# Altium schematic symbol library ALL.SchLib: 28 symbols
Pins are listed as number, name and electrical type; pins without a type are passive.

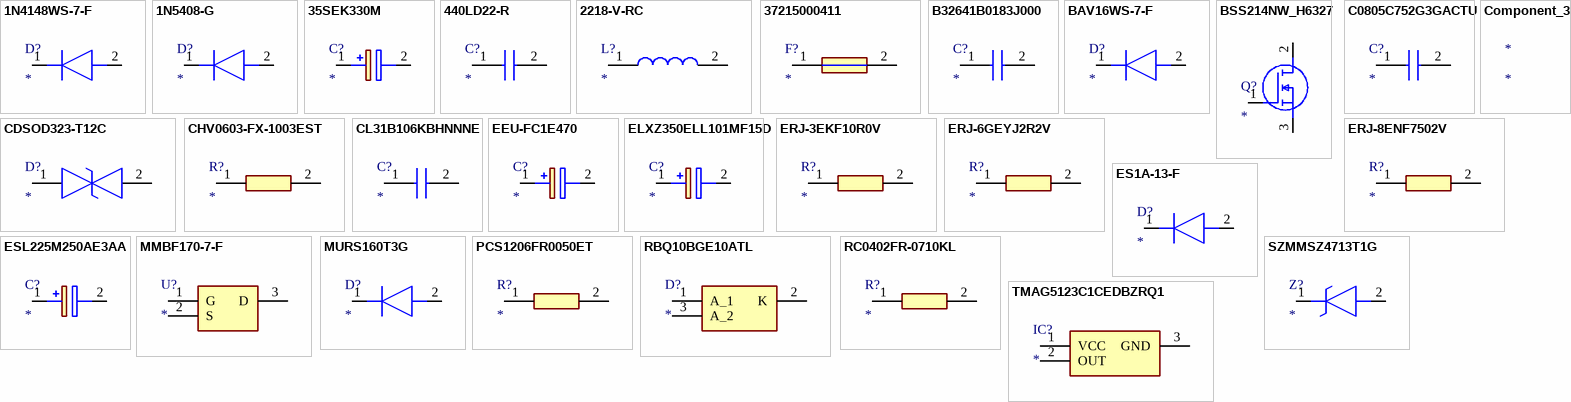
[diagram p0: symbols 1N4148WS-7-F to TMAG5123C1CEDBZRQ1]

## 1N4148WS-7-F
designator D?
Diode; Manufacturer_Name: Diodes Inc.; Manufacturer_Part_Number: 1N4148WS-7-F; Datasheet Link: https://componentsearchengine.com/Datasheets/2/1N4148WS-7-F.pdf; Height: 1.2mm; Mouser Part Number: 621-1N4148WS-F; Mouser Price/Stock: https://www.mouser.co.uk/ProductDetail/Diodes-Incorporated/1N4148WS-7-F?qs=4drIV0IxA0r8aNy7%2Fu4kVw%3D%3D; Arrow Part Number: 1N4148WS-7-F; Arrow Price/Stock: https://www.arrow.com/en/products/1n4148ws-7-f/diodes-incorporated?region=nac
footprint SOD2513X120N
pins: 1 K, 2 A

## 1N5408-G
designator D?
Diode; Manufacturer_Name: Comchip Technology; Manufacturer_Part_Number: 1N5408-G; Datasheet Link: https://mouser.componentsearchengine.com/Datasheets/1/1N5408-G.pdf; Mouser Part Number: 750-1N5408-G; Mouser Price/Stock: https://www.mouser.co.uk/ProductDetail/Comchip-Technology/1N5408-G?qs=2qJf6qQ4IOL0Y0pSbu8ytQ%3D%3D; Arrow Part Number: 1N5408-G; Arrow Price/Stock: https://www.arrow.com/en/products/1n5408-g/comchip-technology?region=nac
footprint DIOAD3022W132L902D530
pins: 1 K, 2 A

## 35SEK330M
designator C?
Capacitor Polarised; Manufacturer_Name: Panasonic; Manufacturer_Part_Number: 35SEK330M; Datasheet Link: http://industrial.panasonic.com/cdbs/www-data/pdf/AAB8000/AAB8000C265.pdf; Height: 13mm; Mouser Part Number: 667-35SEK330M; Mouser Price/Stock: https://www.mouser.co.uk/ProductDetail/Panasonic/35SEK330M?qs=W0yvOO0ixfEBNpdyS0JeDw%3D%3D; Arrow Part Number: 35SEK330M; Arrow Price/Stock: https://www.arrow.com/en/products/35sek330m/panasonic
footprint CAPPRD500W65D1000H1300
pins: 1 +, 2 -

## 440LD22-R
designator C?
Capacitor; Manufacturer_Name: Vishay; Manufacturer_Part_Number: 440LD22-R; Datasheet Link: https://www.vishay.com/docs/23102/440lseries.pdf; Height: 8.9mm; Mouser Part Number: 75-440LD22-R; Mouser Price/Stock: https://www.mouser.co.uk/ProductDetail/Vishay/440LD22-R?qs=q6Cxi74AsI%252B9jU0TIa2bZg%3D%3D; Arrow Part Number: 440LD22-R; Arrow Price/Stock: https://www.arrow.com/en/products/440ld22-r/vishay?region=nac
footprint 440LD22R
pins: 1, 2

## 2218-V-RC
designator L?
Inductor; Manufacturer_Name: Bourns; Manufacturer_Part_Number: 2218-V-RC; Datasheet Link: http://uk.rs-online.com/web/p/products/8603988; Height: 24.13mm; Mouser Part Number: 542-2218-V-RC; Mouser Price/Stock: https://www.mouser.com/Search/Refine.aspx?Keyword=542-2218-V-RC; Arrow Part Number: 2218-V-RC; Arrow Price/Stock: https://www.arrow.com/en/products/2218-v-rc/bourns
footprint 2218VRC
pins: 1, 2

## 37215000411
designator F?
Fuse; Manufacturer_Name: LITTELFUSE; Manufacturer_Part_Number: 37215000411; Datasheet Link: https://datasheet.datasheetarchive.com/originals/distributors/Datasheets-DGA17/1008341.pdf; Height: 8mm; Mouser Part Number: 576-37215000411; Mouser Price/Stock: https://www.mouser.co.uk/ProductDetail/Littelfuse/37215000411?qs=j%2FZ%252BjGviqx8wANZL5SUdGQ%3D%3D; Arrow Part Number: 37215000411; Arrow Price/Stock: https://www.arrow.com/en/products/37215000411/littelfuse
footprint 37215000411
pins: 1, 2

## B32641B0183J000
designator C?
Capacitor; Manufacturer_Name: TDK; Manufacturer_Part_Number: B32641B0183J000; Datasheet Link: https://product.tdk.com/system/files/dam/doc/product/capacitor/film/mkp_mfp/data_sheet/20/20/ds/mmkp_b32641b_b32643b.pdf
footprint B32641_(13_x_6)
pins: 1, 2

## BAV16WS-7-F
designator D?
Diode; Manufacturer_Name: Diodes Inc.; Manufacturer_Part_Number: BAV16WS-7-F; Datasheet Link: https://4donline.ihs.com/images/VipMasterIC/IC/DIOD/DIOD-S-A0001754954/DIOD-S-A0001754954-1.pdf?hkey=52A5661711E402568146F3353EA87419; Height: 1.1mm; Mouser Part Number: 621-BAV16WS-F; Mouser Price/Stock: https://www.mouser.co.uk/ProductDetail/Diodes-Incorporated/BAV16WS-7-F?qs=bVotBgaKQqVfHaduYaDRlw%3D%3D; Arrow Part Number: BAV16WS-7-F; Arrow Price/Stock: https://www.arrow.com/en/products/bav16ws-7-f/diodes-incorporated?region=nac
footprint SOD2513X110N
pins: 1 K, 2 A

## BSS214NW_H6327
designator Q?
MOSFET (N-Channel); Manufacturer_Name: Infineon; Manufacturer_Part_Number: BSS214NW H6327; Description: MOSFET N-Ch 20V 1.5A SOT-323-3; Datasheet Link: https://www.infineon.com/dgdl/Infineon-BSS214NW-DS-v02_02-en.pdf?fileId=db3a30431b3e89eb011b695aebc01bde; Height: 1mm; Mouser Part Number: 726-BSS214NWH6327; Mouser Price/Stock: https://www.mouser.co.uk/ProductDetail/Infineon-Technologies/BSS214NW-H6327?qs=UDRxhIVShwA1C658TsByXQ%3D%3D
footprint SOT65P210X100-3N
pins: 1 G, 2 D, 3 S

## C0805C752G3GACTU
designator C?
Capacitor; Manufacturer_Name: KEMET; Manufacturer_Part_Number: C0805C752G3GACTU; Datasheet Link: https://connect.kemet.com:7667/gateway/IntelliData-ComponentDocumentation/1.0/download/specsheet/C0805C752G3GACTU; Height: 0.88mm; Mouser Part Number: 80-C0805C752G3GACTU; Mouser Price/Stock: https://www.mouser.co.uk/ProductDetail/KEMET/C0805C752G3GACTU?qs=A6eO%252BMLsxmSERHrUwUvuRw%3D%3D
footprint CAPC2012X88N
pins: 1, 2

## CDSOD323-T12C
designator D?
TVS Diode (Bi-directional); Manufacturer_Name: Bourns; Manufacturer_Part_Number: CDSOD323-T12C; Datasheet Link: https://www.bourns.com/docs/Product-Datasheets/CDSOD323-TxxC.PDF; Height: 1.14mm; Mouser Part Number: 652-CDSOD323-T12C; Mouser Price/Stock: https://www.mouser.co.uk/ProductDetail/Bourns/CDSOD323-T12C?qs=N%252BiqXe0%252BQtuCC1vZ%2Fw%2FXeA%3D%3D; Arrow Part Number: CDSOD323-T12C; Arrow Price/Stock: https://www.arrow.com/en/products/cdsod323-t12c/bourns?region=nac
footprint CDSOD323T12C
pins: 1, 2

## CHV0603-FX-1003EST
designator R?
Resistor; Manufacturer_Name: Bourns; Manufacturer_Part_Number: CHV0603-FX-1003EST; Description: ResHV ST 0603 100k 1% 0.1W TCR100; Datasheet Link: https://eu.mouser.com/datasheet/2/54/CHV-777595.pdf; Height: 0.55mm; Mouser Part Number: 652-CHV0603FX1003EST; Mouser Price/Stock: https://www.mouser.co.uk/ProductDetail/Bourns/CHV0603-FX-1003EST?qs=QNEnbhJQKvYjZUOCb6w1iw%3D%3D; Arrow Part Number: CHV0603-FX-1003EST; Arrow Price/Stock: https://www.arrow.com/en/products/chv0603-fx-1003est/bourns?region=nac
footprint RESC1608X55N
pins: 1, 2

## CL31B106KBHNNNE
designator C?
Capacitor; Manufacturer_Name: Samsung Electro-Mechanics; Manufacturer_Part_Number: CL31B106KBHNNNE; Datasheet Link: https://datasheet.datasheetarchive.com/originals/distributors/DKDS-19/375194.pdf; Height: 1.8mm; Mouser Part Number: 187-CL31B106KBHNNNE; Mouser Price/Stock: https://www.mouser.co.uk/ProductDetail/Samsung-Electro-Mechanics/CL31B106KBHNNNE?qs=T0XSgvH75d4ZN8WrMi8xmQ%3D%3D; Arrow Part Number: CL31B106KBHNNNE; Arrow Price/Stock: https://www.arrow.com/en/products/cl31b106kbhnnne/samsung-electro-mechanics
footprint CAPC3216X180N
pins: 1, 2

## Component_3
designator *

## EEU-FC1E470
designator C?
Capacitor Polarised; Manufacturer_Name: Panasonic; Manufacturer_Part_Number: EEU-FC1E470; Datasheet Link: http://industrial.panasonic.com/cdbs/www-data/pdf/RDF0000/ABA0000C1209.pdf; Height: 12mm; Mouser Part Number: 667-EEU-FC1E470; Mouser Price/Stock: https://www.mouser.co.uk/ProductDetail/Panasonic/EEU-FC1E470?qs=%2FUrJKH1balDrIEZEOcwNCg%3D%3D; Arrow Part Number: EEU-FC1E470; Arrow Price/Stock: https://www.arrow.com/en/products/eeu-fc1e470/panasonic
footprint CAPPRD200W55D500H1200
pins: 1 +, 2 -

## ELXZ350ELL101MF15D
designator C?
Capacitor Polarised; Manufacturer_Name: United Chemi-Con; Manufacturer_Part_Number: ELXZ350ELL101MF15D; Datasheet Link: http://www.farnell.com/datasheets/2343873.pdf; Height: 16.5mm; Mouser Part Number: 661-ELXZ350ELL101MF1; Mouser Price/Stock: https://www.mouser.co.uk/ProductDetail/United-Chemi-Con/ELXZ350ELL101MF15D?qs=j5jYwg7gX7HPF3UdDeU3sw%3D%3D; Arrow Part Number: ELXZ350ELL101MF15D; Arrow Price/Stock: https://www.arrow.com/en/products/elxz350ell101mf15d/united-chemi-con
footprint CAPPRD250W50D655H1650
pins: 1 +, 2 -

## ERJ-3EKF10R0V
designator R?
Resistor; Manufacturer_Name: Panasonic; Manufacturer_Part_Number: ERJ-3EKF10R0V; Datasheet Link: https://industrial.panasonic.com/cdbs/www-data/pdf/RDA0000/AOA0000C304.pdf; Height: 0.55mm; Mouser Part Number: 667-ERJ-3EKF10R0V; Mouser Price/Stock: https://www.mouser.co.uk/ProductDetail/Panasonic/ERJ-3EKF10R0V?qs=Y94Hbc6uvEMT73hhx3Gvwg%3D%3D; Arrow Part Number: ERJ-3EKF10R0V; Arrow Price/Stock: https://www.arrow.com/en/products/erj-3ekf10r0v/panasonic?region=nac
footprint ERJ3EK_(0603)
pins: 1, 2

## ERJ-6GEYJ2R2V
designator R?
Resistor; Manufacturer_Name: Panasonic; Manufacturer_Part_Number: ERJ-6GEYJ2R2V; Description: Panasonic ERJ6GE Series Thick Film Surface Mount Fixed Resistor 0805 Case 2.2 +/-5% 0.125W -100  +600ppm/C; Datasheet Link: https://datasheet.datasheetarchive.com/originals/distributors/DKDS40/DSANUWW0010982.pdf; Height: 0.7mm
footprint RESC2012X70N
pins: 1, 2

## ERJ-8ENF7502V
designator R?
Resistor; Manufacturer_Name: Panasonic; Manufacturer_Part_Number: ERJ-8ENF7502V; Datasheet Link: https://industrial.panasonic.com/cdbs/www-data/pdf/RDA0000/AOA0000C304.pdf; Height: 0.7mm
footprint ERJ8EN_(1206)
pins: 1, 2

## ES1A-13-F
designator D?
Diode; Manufacturer_Name: Diodes Inc.; Manufacturer_Part_Number: ES1A-13-F; Datasheet Link: https://datasheet.datasheetarchive.com/originals/distributors/SFDatasheet-0/sf-0003170.pdf; Height: 2.4mm; Mouser Part Number: 621-ES1A-F; Mouser Price/Stock: https://www.mouser.co.uk/ProductDetail/Diodes-Incorporated/ES1A-13-F?qs=CcKFP491uOOqYN0bONi7Aw%3D%3D; Arrow Part Number: ES1A-13-F; Arrow Price/Stock: https://www.arrow.com/en/products/es1a-13-f/diodes-incorporated?region=nac
footprint DIOM5226X240N
pins: 1 K, 2 A

## ESL225M250AE3AA
designator C?
Capacitor Polarised; Manufacturer_Name: KEMET; Manufacturer_Part_Number: ESL225M250AE3AA; Datasheet Link: https://www.kemet.com/specsheet/ESL225M250AE3AA; Height: 12.5mm; Mouser Part Number: 80-ESL225M250AE3AA; Mouser Price/Stock: https://www.mouser.co.uk/ProductDetail/KEMET/ESL225M250AE3AA?qs=Wj%2FVkw3K%252BMBOyYSAJV1eVA%3D%3D
footprint CAPPRD250W50D630H1250
pins: 1 +, 2 -

## MMBF170-7-F
designator U?
Undefined or Miscellaneous; Manufacturer_Name: Diodes Inc.; Manufacturer_Part_Number: MMBF170-7-F; Mouser Part Number: 621-MMBF170-F; Mouser Price/Stock: https://www.mouser.co.uk/ProductDetail/Diodes-Incorporated/MMBF170-7-F?qs=JQhQjRZ3yDGLUL7NqtqOAQ%3D%3D; Arrow Part Number: MMBF170-7-F; Arrow Price/Stock: null?region=asia
footprint SOT103P240X110-3N
pins: 1 G, 2 S, 3 D

## MURS160T3G
designator D?
Diode; Manufacturer_Name: onsemi; Manufacturer_Part_Number: MURS160T3G; Datasheet Link: http://www.onsemi.com/pub/Collateral/MURS120T3-D.PDF; Height: 2.47mm; Mouser Part Number: 863-MURS160T3G; Mouser Price/Stock: https://www.mouser.co.uk/ProductDetail/onsemi/MURS160T3G?qs=Gev%252BmEvV0ibAq9lMduO7uQ%3D%3D; Arrow Part Number: MURS160T3G; Arrow Price/Stock: https://www.arrow.com/en/products/murs160t3g/on-semiconductor
footprint DIOM5436X247N
pins: 1 K, 2 A

## PCS1206FR0050ET
designator R?
Resistor; Manufacturer_Name: Ohmite; Manufacturer_Part_Number: PCS1206FR0050ET; Datasheet Link: https://componentsearchengine.com/Datasheets/1/PCS1206FR0050ET.pdf; Height: 0.684mm; Mouser Part Number: 588-PCS1206FR0050ET; Mouser Price/Stock: https://www.mouser.co.uk/ProductDetail/Ohmite/PCS1206FR0050ET?qs=Zz7%252BYVVL6bHJlDnri3Ubtg%3D%3D
footprint RESC3216X68N
pins: 1, 2

## RBQ10BGE10ATL
designator D?
Schottky Diode; Manufacturer_Name: ROHM Semiconductor; Manufacturer_Part_Number: RBQ10BGE10ATL; Datasheet Link: https://fscdn.rohm.com/en/products/databook/datasheet/discrete/diode/schottky_barrier/rbq10bge10atl-e.pdf; Height: 2.4mm; Mouser Part Number: 755-RBQ10BGE10ATL; Mouser Price/Stock: https://www.mouser.co.uk/ProductDetail/ROHM-Semiconductor/RBQ10BGE10ATL?qs=QNEnbhJQKvaWc1bmSBqKlg%3D%3D
footprint RBQ10BGE10ATL
pins: 1 A_1, 2 K, 3 A_2

## RC0402FR-0710KL
designator R?
Resistor; Manufacturer_Name: KEMET; Manufacturer_Part_Number: RC0402FR-0710KL; Description: YAGEO (PHYCOMP) - RC0402FR-0710KL. - RES; Datasheet Link: https://datasheet.datasheetarchive.com/originals/distributors/Datasheets_SAMA/902f9e387b938f871d31120f5fc1d65e.pdf; Height: 0.4mm; Mouser Part Number: 603-RC0402FR-0710KL; Mouser Price/Stock: https://www.mouser.co.uk/ProductDetail/YAGEO/RC0402FR-0710KL?qs=I1mnnYJTTsxUoNwrUsQExA%3D%3D; Arrow Part Number: RC0402FR-0710KL; Arrow Price/Stock: https://www.arrow.com/en/products/rc0402fr-0710kl/yageo?region=europe
footprint RESC1005X40N
pins: 1, 2

## SZMMSZ4713T1G
designator Z?
Zener Diode; Manufacturer_Name: onsemi; Manufacturer_Part_Number: SZMMSZ4713T1G; Description: Zener Diodes ZEN REG 0.5W 30V; Datasheet Link: https://componentsearchengine.com/Datasheets/2/SZMMSZ4713T1G.pdf; Height: 1.35mm; Mouser Part Number: 863-SZMMSZ4713T1G; Mouser Price/Stock: https://www.mouser.co.uk/ProductDetail/onsemi/SZMMSZ4713T1G?qs=PJJcWtbOkNU%2F%252BcrJAwZPrw%3D%3D; Arrow Part Number: SZMMSZ4713T1G; Arrow Price/Stock: https://www.arrow.com/en/products/szmmsz4713t1g/on-semiconductor?region=nac
footprint SOD3716X135N
pins: 1 K, 2 A

## TMAG5123C1CEDBZRQ1
designator IC?
Integrated Circuit; Manufacturer_Name: Texas Instruments; Manufacturer_Part_Number: TMAG5123C1CEDBZRQ1; Datasheet Link: https://www.ti.com/lit/ds/symlink/tmag5123-q1.pdf?ts=1630828988771&ref_url=https%253A%252F%252Fwww.ti.com%252Fstore%252Fti%252Fen%252Fp%252Fproduct%252F%253Fp%253DTMAG5123C1CEDBZRQ1; Height: 1.12mm; Mouser Part Number: 595-TMA123C1CEDBZRQ1; Mouser Price/Stock: https://www.mouser.co.uk/ProductDetail/Texas-Instruments/TMAG5123C1CEDBZRQ1?qs=QNEnbhJQKvb7LkiJe6Aw1g%3D%3D
footprint SOT95P237X112-3N
pins: 1 VCC, 2 OUT, 3 GND